# EAGLE library part TPS65265 (library VNA)
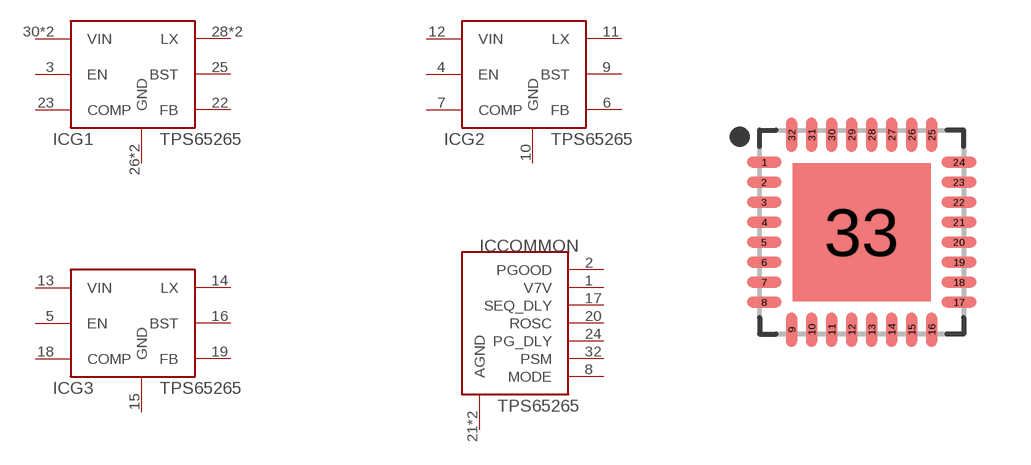
[diagram p6: symbol with the pads of QFN50P500X500X100-33T345N; footprint QFN50P500X500X100-33T345N]

Designator prefix IC; gates COMMON=TPS65265COM G1=TPS65265BUCK G2=TPS65265BUCK G3=TPS65265BUCK

## TPS65265  [QFN50P500X500X100-33T345N]
1  COMMON:V7V
2  COMMON:PGOOD
3  G1:EN
4  G2:EN
5  G3:EN
6  G2:FB
7  G2:COMP
8  COMMON:MODE
9  G2:BST
10  G2:GND
11  G2:LX
12  G2:VIN
13  G3:VIN
14  G3:LX
15  G3:GND
16  G3:BST
17  COMMON:SEQ_DLY
18  G3:COMP
19  G3:FB
20  COMMON:ROSC
21  COMMON:AGND
22  G1:FB
23  G1:COMP
24  COMMON:PG_DLY
25  G1:BST
26  G1:GND
27  G1:GND
28  G1:LX
29  G1:LX
30  G1:VIN
31  G1:VIN
32  COMMON:PSM
33  COMMON:AGND

## Footprint QFN50P500X500X100-33T345N (pad centres in mm)
32-QFN, 0.50 mm pitch, 5.00 X 5.00 X 1.00 mm body, 3.45 X 3.45 mm thermal pad 32-pin QFN package with 0.50 mm pitch with body size 5.00 X 5.00 X 1.00 mm and thermal pad size 3.45 X 3.45 mm
smd 0.86 x 0.27: 1 -2.435,1.75; 2 -2.435,1.25; 3 -2.435,0.75; 4 -2.435,0.25; 5 -2.435,-0.25; 6 -2.435,-0.75; 7 -2.435,-1.25; 8 -2.435,-1.75; 17 2.435,-1.75; 18 2.435,-1.25; 19 2.435,-0.75; 20 2.435,-0.25; 21 2.435,0.25; 22 2.435,0.75; 23 2.435,1.25; 24 2.435,1.75
smd 0.27 x 0.86: 9 -1.75,-2.435; 10 -1.25,-2.435; 11 -0.75,-2.435; 12 -0.25,-2.435; 13 0.25,-2.435; 14 0.75,-2.435; 15 1.25,-2.435; 16 1.75,-2.435; 25 1.75,2.435; 26 1.25,2.435; 27 0.75,2.435; 28 0.25,2.435; 29 -0.25,2.435; 30 -0.75,2.435; 31 -1.25,2.435; 32 -1.75,2.435
smd 3.45 x 3.45: 33 0,0